# Altium schematic symbol library Diode ss16.SchLib: 1 symbol
Pins are listed as number, name and electrical type; pins without a type are passive.

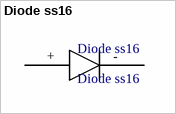
[diagram p0: symbol Diode ss16]

## Diode ss16
designator Diode ss16
footprint Diode ss16
pins: +, -